# EAGLE library part LEISTUNGSSCHALTER_THERMISCHE_MAGNETISCHE_AUSLOESUNG (library e-schalter)
Leistungsschalter mit thermischer/magnetischer Auslösung
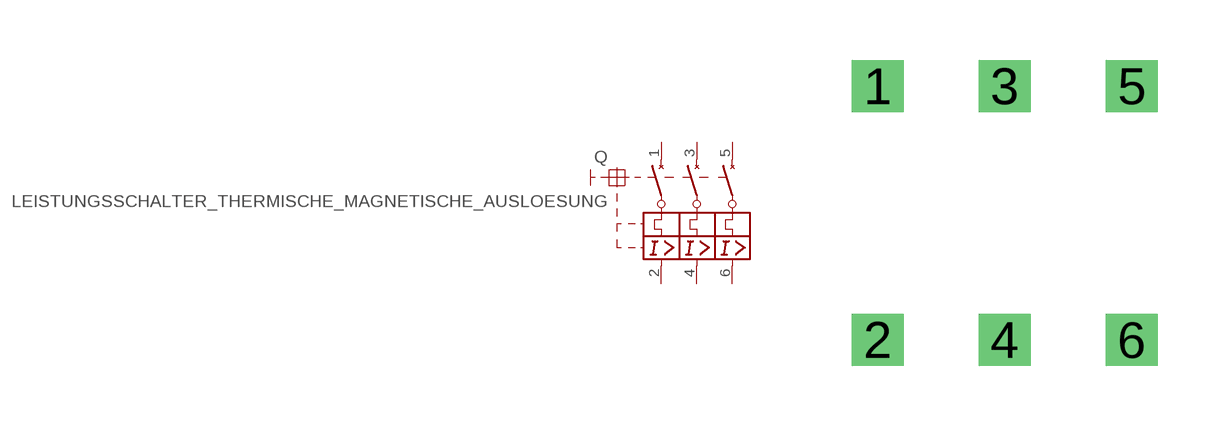
[diagram p5: symbol with the pads of LASTSCHALTER_THERMISCHE-MAGNETISCHE_AUSLOESUNG; footprint LASTSCHALTER_THERMISCHE-MAGNETISCHE_AUSLOESUNG]

Designator prefix Q

## LEISTUNGSSCHALTER_THERMISCHE_MAGNETISCHE_AUSLOESUNG  [LASTSCHALTER_THERMISCHE-MAGNETISCHE_AUSLOESUNG]
1  1  pas
2  2  pas
3  3  pas
4  4  pas
5  5  pas
6  6  pas

## Footprint LASTSCHALTER_THERMISCHE-MAGNETISCHE_AUSLOESUNG (pad centres in mm)
Dummy
drill 0.8 square: 1 -3.175,3.175; 2 -3.175,-3.175; 3 0,3.175; 4 0,-3.175; 5 3.175,3.175; 6 3.175,-3.175